# Altium schematic symbol library Schlib1.SchLib: 13 symbols
Pins are listed as number, name and electrical type; pins without a type are passive.

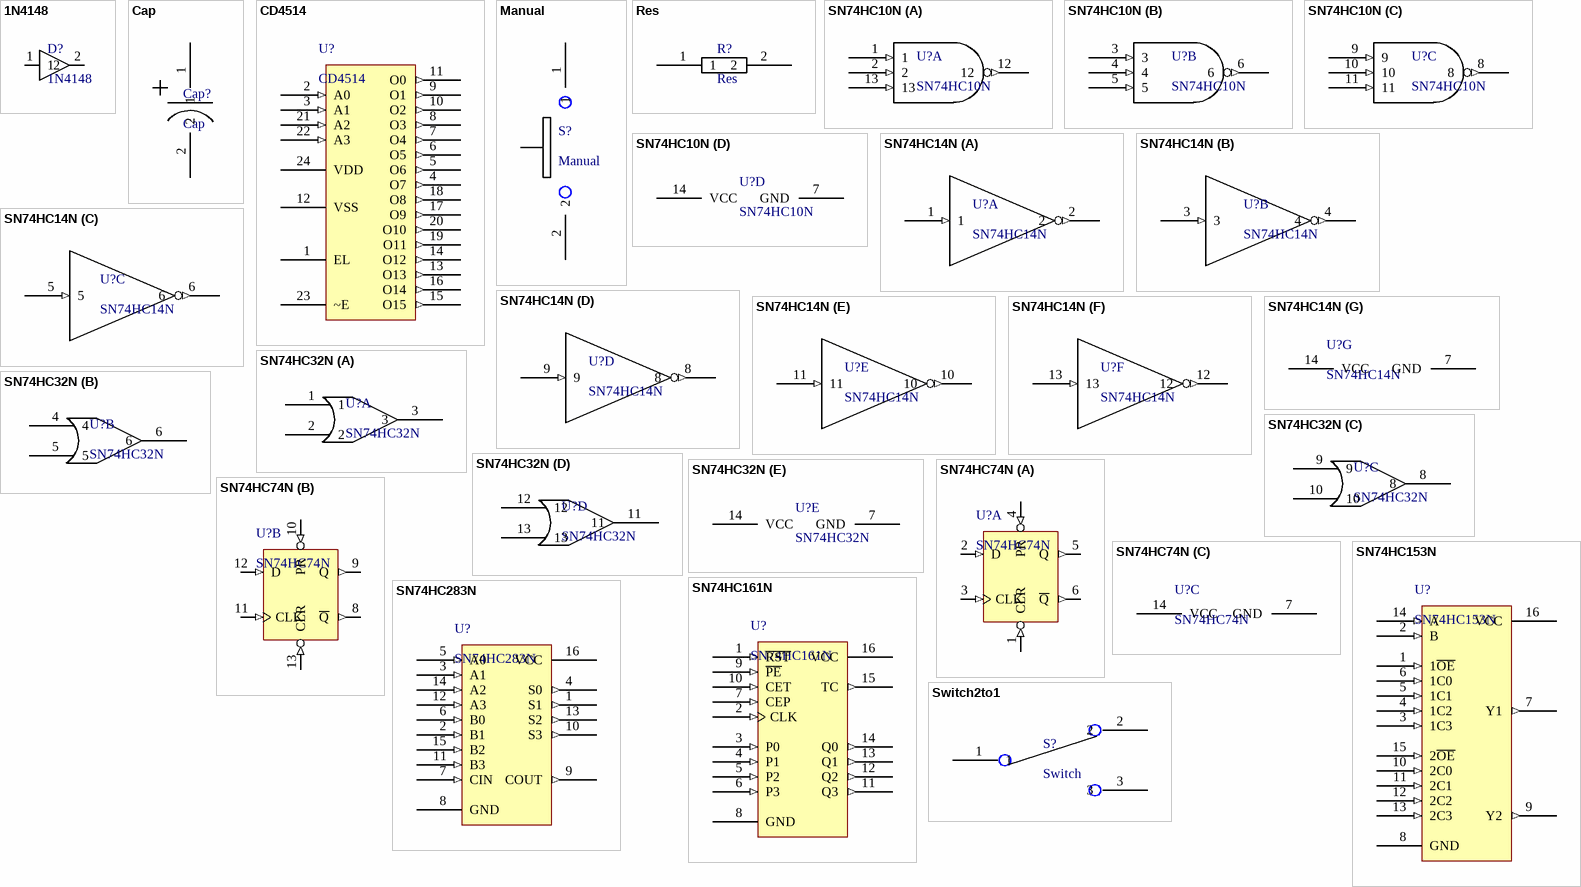
[diagram p0: symbols 1N4148 to Switch2to1]

## 1N4148
designator D?
pins: 1, 2

## Cap
designator Cap?
pins: 1, 2

## CD4514
designator U?
pins: 1 EL, 2 A0 (in), 3 A1 (in), 4 O7 (out), 5 O6 (out), 6 O5 (out), 7 O4 (out), 8 O3 (out), 9 O1 (out), 10 O2 (out), 11 O0 (out), 12 VSS, 13 O13 (out), 14 O12 (out), 15 O15 (out), 16 O14 (out), 17 O9 (out), 18 O8 (out), 19 O11 (out), 20 O10 (out), 21 A2 (in), 22 A3 (in), 23 ~E, 24 VDD

## Manual
designator S?
pins: 1, 2

## Res
designator R?
pins: 1, 2

## SN74HC10N
designator U?
part A pins: 1 (in), 2 (in), 12 (out), 13 (in)
part B pins: 3 (in), 4 (in), 5 (in), 6 (out)
part C pins: 8 (out), 9 (in), 10 (in), 11 (in)
part D pins: 7 GND, 14 VCC

## SN74HC14N
designator U?
part A pins: 1 (in), 2 (out)
part B pins: 3 (in), 4 (out)
part C pins: 5 (in), 6 (out)
part D pins: 8 (out), 9 (in)
part E pins: 10 (out), 11 (in)
part F pins: 12 (out), 13 (in)
part G pins: 7 GND, 14 VCC

## SN74HC32N
designator U?
part A pins: 1, 2, 3
part B pins: 4, 5, 6
part C pins: 8, 9, 10
part D pins: 11, 12, 13
part E pins: 7 GND, 14 VCC

## SN74HC74N
designator U?
part A pins: 1 CLR (in), 2 D (in), 3 CLK (in), 4 PR (in), 5 Q (out), 6 ~{Q} (out)
part B pins: 8 ~{Q} (out), 9 Q (out), 10 PR (in), 11 CLK (in), 12 D (in), 13 CLR (in)
part C pins: 7 GND, 14 VCC

## SN74HC153N
designator U?
pins: 1 1~{OE} (in), 2 B (in), 3 1C3 (in), 4 1C2 (in), 5 1C1 (in), 6 1C0 (in), 7 Y1 (out), 8 GND, 9 Y2 (out), 10 2C0 (in), 11 2C1 (in), 12 2C2 (in), 13 2C3 (in), 14 A (in), 15 2~{OE} (in), 16 VCC

## SN74HC161N
designator U?
pins: 1 ~{RST} (in), 2 CLK (in), 3 P0 (in), 4 P1 (in), 5 P2 (in), 6 P3 (in), 7 CEP (in), 8 GND, 9 ~{PE} (in), 10 CET (in), 11 Q3 (out), 12 Q2 (out), 13 Q1 (out), 14 Q0 (out), 15 TC (out), 16 VCC (power)

## SN74HC283N
designator U?
pins: 1 S1 (out), 2 B1 (in), 3 A1 (in), 4 S0 (out), 5 A0 (in), 6 B0 (in), 7 CIN (in), 8 GND, 9 COUT (out), 10 S3 (out), 11 B3 (in), 12 A3 (in), 13 S2 (out), 14 A2 (in), 15 B2 (in), 16 VCC (power)

## Switch2to1
designator S?, comment Switch
pins: 1, 2, 3